# Altium schematic symbol library QBLP595.SchLib: 1 symbol
Pins are listed as number, name and electrical type; pins without a type are passive.

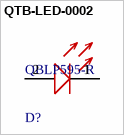
[diagram p0: symbol QTB-LED-0002]

## QTB-LED-0002
designator D?, comment QBLP595-R
LED RED CLEAR 0402 SMD; Manufacturer: QT Brightek (QTB); Lens Size: 0.5mm; Dominant Wavelength: 620nm; Forward Voltage: 2.0V; Lens Color: Colorless; Luminous Intensity: 120mcd; Test Current: 20mA; Viewing Angle: 140°; Lens Style: Flat; Width: 0.5mm; Case Code (Metric): 1005; Lens Transparency: Clear; Color: Red; Packaging: Tape and Reel; Case Code (Imperial): 0402; Mount: Surface Mount; Length: 1mm; Case/Package: 0402; Height: 0.6mm; ComponentLink1Description: Digikey; ComponentLink1URL: https://www.digikey.com/en/products/detail/qt-brightek-qtb/QBLP595-R/6201908; Manufacturer Part Number: QBLP595-R; ComponentLink2Description: Datasheet; ComponentLink2URL: https://www.qt-brightek.com/datasheet/QBLP595%20Series.pdf
footprint FP-QBLP595-R-MFG
pins: 1 CATHODE (-), 2 ANODE (+)